# Altium footprint library Fedor's_pcb.PcbLib: 174 footprints (part 1 of 14)
Each footprint in its own frame and in the unit in brackets; x right, y up, seen from the top. Pads: shape width x height; smd on the part's side, far side on the other; paste and mask are expansions set on the pad; w line width, h text height; cw(c..) or ccw(c..) is an arc to the next point about the centre after c.
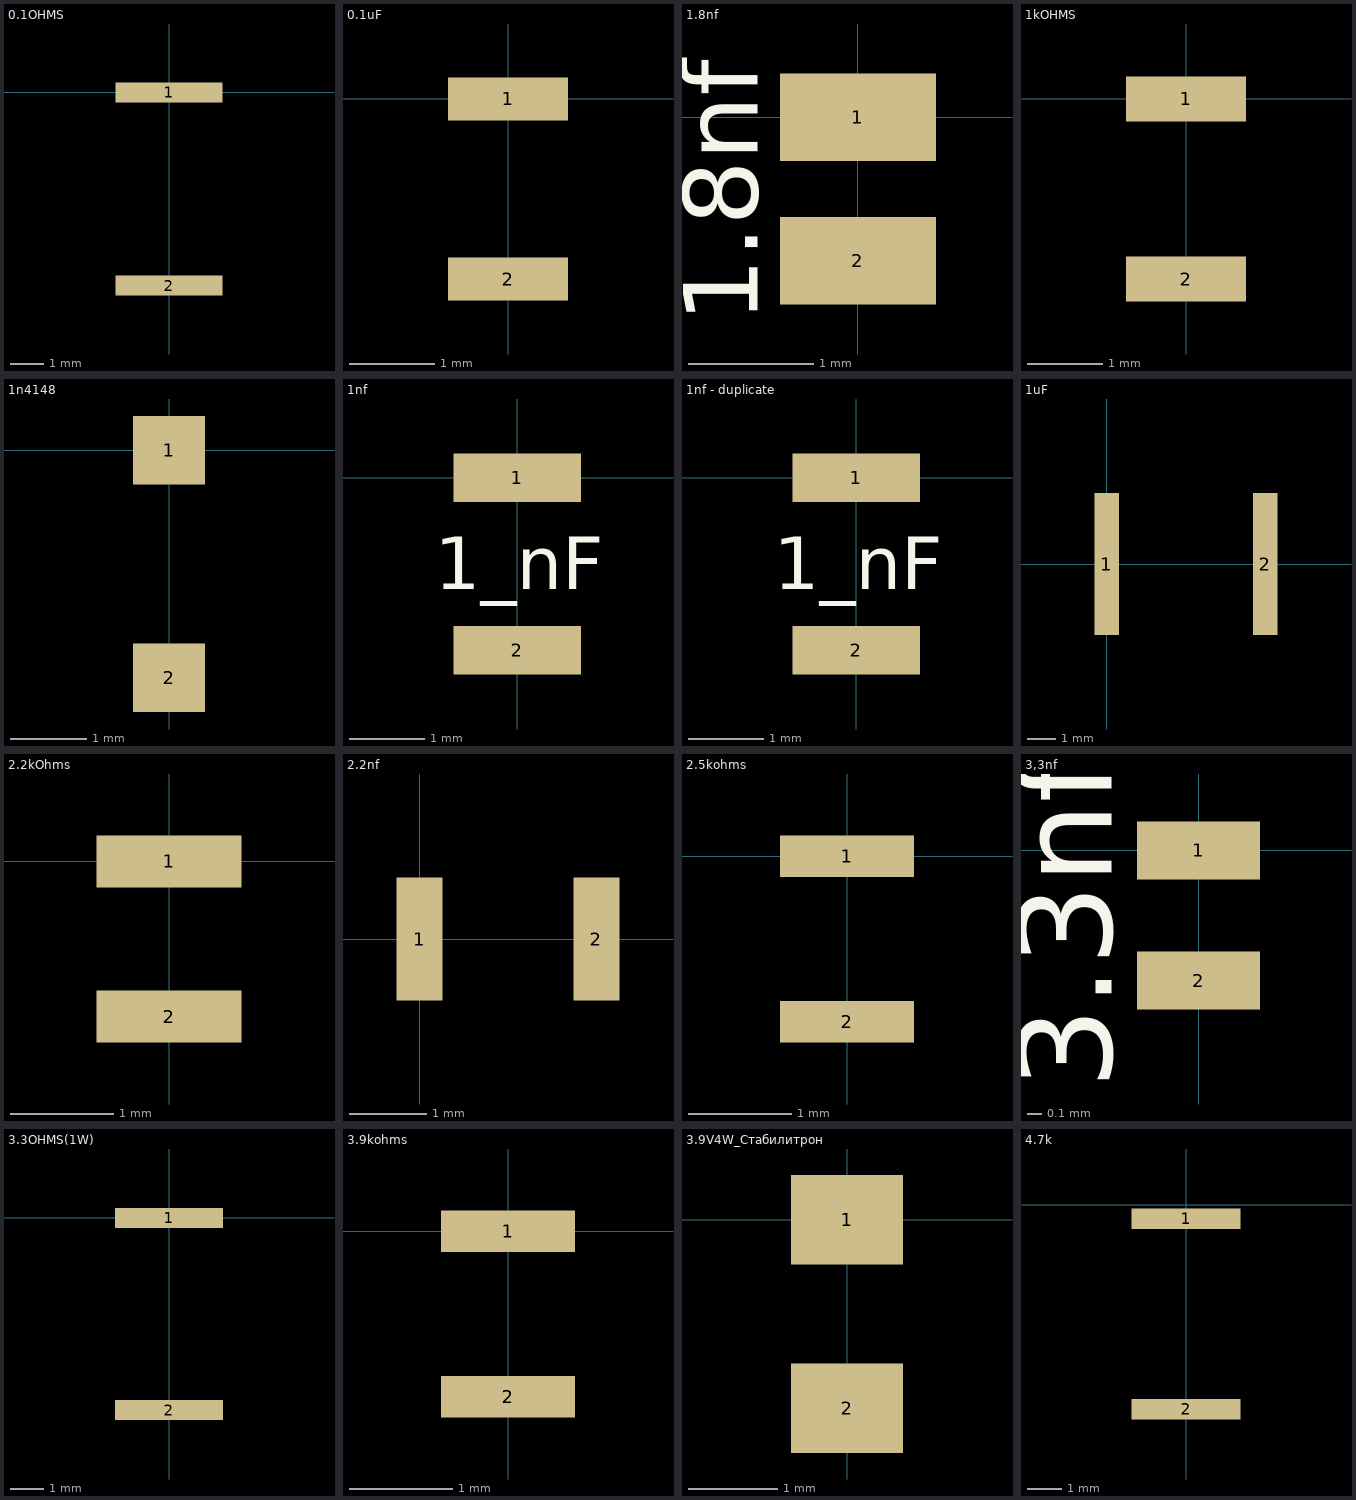
[diagram p0: the footprints below, top view; thin cyan lines are the x and y axes]

## 0.1OHMS [mm] "2010"
pads (2):
  rect 3.2x0.6 smd mask+0.05: 1(0,0) 2(0,-5.8)

## 0.1uF [mm]
pads (2):
  rect 1.4x0.5 smd: 1(0,0) 2(0,-2.1)

## 1.8nf [mm]
pads (2):
  rect 1.25x0.7 smd: 1(0,0) 2(0,-1.15)
Top Overlay:
  text "1.8nf" at -0.8,-1.65 h0.6

## 1kOHMS [mm] "0.25Вт 1206 1 кОм, 5%, Чип резистор (SMD)"
pads (2):
  rect 1.6x0.6 smd mask+0.05: 1(0,0) 2(0,-2.4)
3D body "1кОм.stp": height 0.56, standoff 0, extent -0.813,-2.769 0.787,0.331

## 1n4148 [mm] "https://www.chipdip.ru/product0/8020762966.  1N4148WQ-7-F, Диод: импульсный, SMD, 100В, 300мА, 4нс, SOD123, Ufmax: 1,25В"
pads (2):
  rect 0.95x0.9 smd mask+0.05: 1(0,0) 2(0,-3)
3D body "1n4148.stp": height 2, standoff 0, extent -0.973,-3.531 1.024,0.469

## 1nf [mm]
pads (2):
  rect 1.7x0.65 smd: 1(0,0) 2(0,-2.3)
Top Overlay:
  text "1_nF" at -1.1,-1.483 h0.7

## 1nf - duplicate [mm]
pads (2):
  rect 1.7x0.65 smd: 1(0,0) 2(0,-2.3)
Top Overlay:
  text "1_nF" at -1.1,-1.483 h0.7

## 1uF [mm] "Типоразмер EIA - 2220"
pads (2):
  rect 0.85x5 smd mask+0.3: 1(0,0) 2(5.6,0)
3D body "1uF.stp": height 1.8, standoff 0, extent 0.039,-2.489 5.639,2.511

## 2.2kOhms [mm] "0.125Вт 0805 2.2 кОм, 5%, Чип резистор (SMD)"
pads (2):
  rect 1.4x0.5 smd: 1(0,0) 2(0,-1.5)
3D body "2.2кОм.stp": height 0.5, standoff 0, extent -0.64,-1.837 0.66,0.263

## 2.2nf [mm] "CC1206JRNPO0BN222, 100V 2.2nF NP0 5% 1206 Multilayer Ceramic Capacitors MLCC - SMD/SMT ROHS"
pads (2):
  rect 0.6x1.6 smd mask+0.1: 1(0,0) 2(2.3,0)
3D body "2.2nF.stp": height 0.53, standoff -0.03, extent -0.407,-0.787 2.693,0.813

## 2.5kohms [mm] "RWB2K500AL, 2.5 kOhms ±0.05% 0.2W, 1/5W Chip Resistor 0805 (2012 Metric) Automotive AEC-Q200 Metal Foil"
pads (2):
  rect 1.3x0.4 smd mask+0.05: 1(0,0) 2(0,-1.6)

## 3,3nf [mm]
pads (2):
  rect 0.85x0.4 smd: 1(0,0) 2(0,-0.9)
Top Overlay:
  text "3.3nf" at -0.6,-1.65 h0.65

## 3.3OHMS(1W) [mm] "1Вт 2512 3.3 Ом, 1%, Чип резистор (SMD)"
pads (2):
  rect 3.2x0.6 smd mask+0.05: 1(0,0) 2(0,-5.7)
3D body "3.3Ом.stp": height 0.28, standoff -0.28, extent -3.124,-6.045 3.226,0.305

## 3.9kohms [mm] "RC0805FR-133K9L, 3.9 kOhms ±1% 0.125W, 1/8W Chip Resistor 0805 (2012 Metric) Moisture Resistant Thick Film"
pads (2):
  rect 1.3x0.4 smd mask+0.05: 1(0,0) 2(0,-1.6)
3D body "3,9кОм.stp": height 0.5, standoff 0, extent -0.65,-1.837 0.65,0.263

## 3.9V4W_Стабилитрон [mm] "Стабилитрон BZX284-C3V9 SOD110, 3.9В, 4Вт"
pads (2):
  rect 1.25x1 smd mask+0.05: 1(0,0) 2(0,-2.1)
3D body "3.9В4Вт.stp": height 1.7, standoff 0, extent -0.66,-2.617 0.64,0.483

## 4.7k [mm] "Типоразмер 2512 EIA"
pads (2):
  rect 3.2x0.6 smd: 1(0,-0.4) 2(0,-6)
3D body "4.7кОм.stp": height 0.53, standoff -0.03, extent -3.277,-6.325 3.073,0.025